# Altium schematic symbol library kmilo17pet-LT_OpAmp_LT1000.SchLib: 2280 symbols (part 56 of 79)
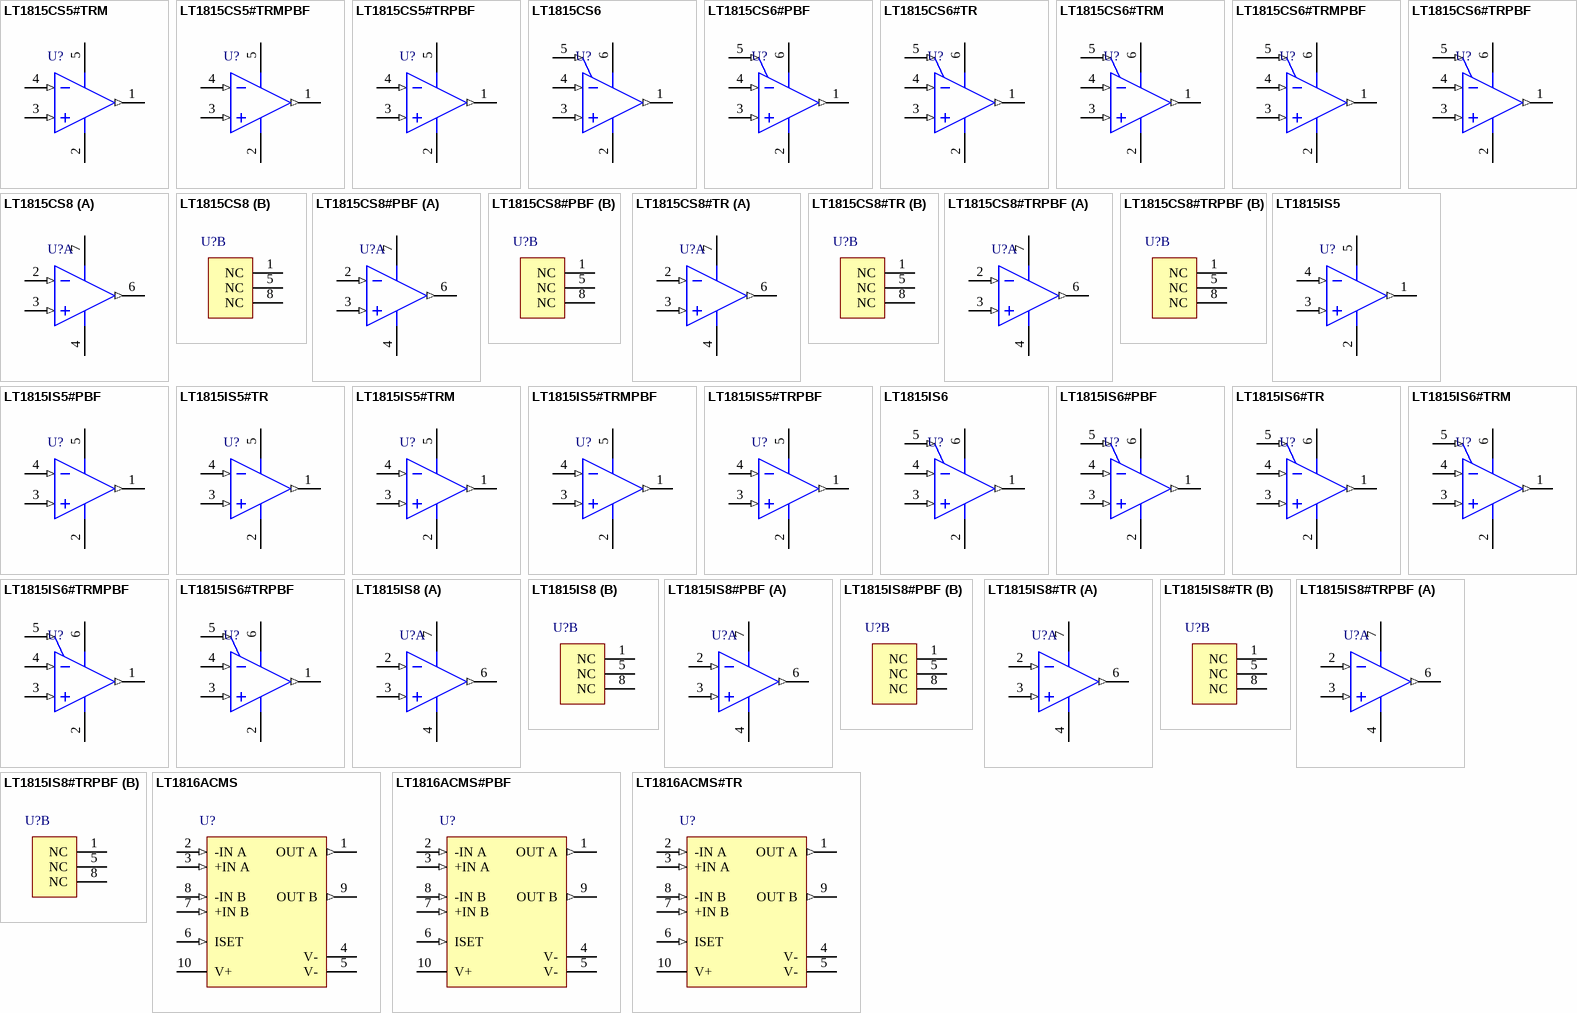
[diagram p160: symbols LT1815CS5#TRM to LT1816ACMS#TR]

## LT1815CS8#TRPBF
designator U?
Single Channel, High SR Voltage Feedback Operational Amplifier with Programmable Supply Current, 220 MHz Typical GBW, 1500 V/us Typical SR, 4 to 12.6 V, 8-Pin SOIC (S8-8), Commercial, Pb-Free, Reel; Linear Technology Part Number: LT1815; Manufacturer: Linear Technology; PartNumber: LT1815CS8#TRPBF; Channels (#): 1; GBW (MHz) Typical: 220; Is (mA) Typical: 6.5; SR (V/us) Typical: 1500; Vos (mV) Guaranteed: 1.5; Vos (mV) Typical: 0.2; Vs Max (V): 12.6; Vs Min (V): 4; DatasheetVersion: Rev. B; PackageVersion: Rev G; PackageReference: LT-S8-8; PackageDescription: 8-Pin Plastic Small Outline, Body 4.9 x 3.9 mm, Pitch 1.27 mm; Supplier 1: Digi-Key; Supplier Part Number 1: LT1815CS8#TRPBF-ND; Packing: Reel; RoHS: Pb-Free; Type: VFB; Mounting Technology: Surface Mount; ComponentLink1Description: Manufacturer URL; ComponentLink1URL: http://www.linear.com/; ComponentLink2Description: Datasheet; ComponentLink2URL: http://cds.linear.com/docs/en/datasheet/181567fb.pdf; ComponentLink3Description: Package Specification; ComponentLink3URL: http://cds.linear.com/docs/en/packaging/05081610_G_SO8.pdf
footprint LT-S8-8_N (SOIC, 8-Leads, Body 4.9x3.9mm, Pitch 1.27mm, IPC Medium Density)
footprint LT-S8-8_L (SOIC, 8-Leads, Body 4.9x3.9mm, Pitch 1.27mm, IPC High Density)
footprint LT-S8-8_M (SOIC, 8-Leads, Body 4.9x3.9mm, Pitch 1.27mm, IPC Low Density)
part A pins: 2 -IN (in), 3 +IN (in), 4 V- (power), 6 OUT (out), 7 V+ (power)
part B pins: 1 NC (power), 5 NC (power), 8 NC (power)

## LT1815IS5
designator U?
Single Channel, High SR Voltage Feedback Operational Amplifier with Programmable Supply Current, 220 MHz Typical GBW, 1500 V/us Typical SR, 4 to 12.6 V, 5-Pin SOT23 (S5-5), Industrial; Linear Technology Part Number: LT1815; Manufacturer: Linear Technology; PartNumber: LT1815IS5; Channels (#): 1; GBW (MHz) Typical: 220; Is (mA) Typical: 6.5; SR (V/us) Typical: 1500; Vos (mV) Guaranteed: 1.5; Vos (mV) Typical: 0.2; Vs Max (V): 12.6; Vs Min (V): 4; DatasheetVersion: Rev. B; PackageReference: LT-S5-5-TSOT-23; PackageDescription: 5-Lead Plastic TSOT-23, Body 1.63 x 2.90 mm, Pitch 0.95 mm; Type: VFB; Mounting Technology: Surface Mount; Code_JEDEC: MO-193; ComponentLink1Description: Manufacturer URL; ComponentLink1URL: http://www.linear.com/; ComponentLink2Description: Datasheet; ComponentLink2URL: http://cds.linear.com/docs/en/datasheet/181567fb.pdf; ComponentLink3Description: Package Specification; ComponentLink3URL: http://cds.linear.com/docs/en/packaging/SOT_5_05-08-1635.pdf
footprint LT-S5-5-TSOT-23_N (SOT23, 5-Leads, Body 2.90x1.63mm, Pitch 0.95mm, IPC Medium Density)
footprint LT-S5-5-TSOT-23_L (SOT23, 5-Leads, Body 2.90x1.63mm, Pitch 0.95mm, IPC High Density)
footprint LT-S5-5-TSOT-23_M (SOT23, 5-Leads, Body 2.90x1.63mm, Pitch 0.95mm, IPC Low Density)
pins: 1 OUT (out) "Output.", 2 V- (power) "Negative Supply Voltage, Usually -5V.", 3 +IN (in) "Noninverting Input.", 4 -IN (in) "Inverting Input.", 5 V+ (power) "Positive Supply Voltage, Usually 5V."

## LT1815IS5#PBF
designator U?
Single Channel, High SR Voltage Feedback Operational Amplifier with Programmable Supply Current, 220 MHz Typical GBW, 1500 V/us Typical SR, 4 to 12.6 V, 5-Pin SOT23 (S5-5), Industrial, Pb-Free; Linear Technology Part Number: LT1815; Manufacturer: Linear Technology; PartNumber: LT1815IS5#PBF; Channels (#): 1; GBW (MHz) Typical: 220; Is (mA) Typical: 6.5; SR (V/us) Typical: 1500; Vos (mV) Guaranteed: 1.5; Vos (mV) Typical: 0.2; Vs Max (V): 12.6; Vs Min (V): 4; DatasheetVersion: Rev. B; PackageReference: LT-S5-5-TSOT-23; PackageDescription: 5-Lead Plastic TSOT-23, Body 1.63 x 2.90 mm, Pitch 0.95 mm; Supplier 1: Newark; Supplier Part Number 1: 78T3752; RoHS: Pb-Free; Type: VFB; Mounting Technology: Surface Mount; Code_JEDEC: MO-193; ComponentLink1Description: Manufacturer URL; ComponentLink1URL: http://www.linear.com/; ComponentLink2Description: Datasheet; ComponentLink2URL: http://cds.linear.com/docs/en/datasheet/181567fb.pdf; ComponentLink3Description: Package Specification; ComponentLink3URL: http://cds.linear.com/docs/en/packaging/SOT_5_05-08-1635.pdf
footprint LT-S5-5-TSOT-23_N (SOT23, 5-Leads, Body 2.90x1.63mm, Pitch 0.95mm, IPC Medium Density)
footprint LT-S5-5-TSOT-23_L (SOT23, 5-Leads, Body 2.90x1.63mm, Pitch 0.95mm, IPC High Density)
footprint LT-S5-5-TSOT-23_M (SOT23, 5-Leads, Body 2.90x1.63mm, Pitch 0.95mm, IPC Low Density)
pins: 1 OUT (out) "Output.", 2 V- (power) "Negative Supply Voltage, Usually -5V.", 3 +IN (in) "Noninverting Input.", 4 -IN (in) "Inverting Input.", 5 V+ (power) "Positive Supply Voltage, Usually 5V."

## LT1815IS5#TR
designator U?
Single Channel, High SR Voltage Feedback Operational Amplifier with Programmable Supply Current, 220 MHz Typical GBW, 1500 V/us Typical SR, 4 to 12.6 V, 5-Pin SOT23 (S5-5), Industrial, Reel; Linear Technology Part Number: LT1815; Manufacturer: Linear Technology; PartNumber: LT1815IS5#TR; Channels (#): 1; GBW (MHz) Typical: 220; Is (mA) Typical: 6.5; SR (V/us) Typical: 1500; Vos (mV) Guaranteed: 1.5; Vos (mV) Typical: 0.2; Vs Max (V): 12.6; Vs Min (V): 4; DatasheetVersion: Rev. B; PackageReference: LT-S5-5-TSOT-23; PackageDescription: 5-Lead Plastic TSOT-23, Body 1.63 x 2.90 mm, Pitch 0.95 mm; Supplier 1: Digi-Key; Supplier Part Number 1: LT1815IS5TR-ND; Packing: Reel; Type: VFB; Mounting Technology: Surface Mount; Code_JEDEC: MO-193; ComponentLink1Description: Manufacturer URL; ComponentLink1URL: http://www.linear.com/; ComponentLink2Description: Datasheet; ComponentLink2URL: http://cds.linear.com/docs/en/datasheet/181567fb.pdf; ComponentLink3Description: Package Specification; ComponentLink3URL: http://cds.linear.com/docs/en/packaging/SOT_5_05-08-1635.pdf
footprint LT-S5-5-TSOT-23_N (SOT23, 5-Leads, Body 2.90x1.63mm, Pitch 0.95mm, IPC Medium Density)
footprint LT-S5-5-TSOT-23_L (SOT23, 5-Leads, Body 2.90x1.63mm, Pitch 0.95mm, IPC High Density)
footprint LT-S5-5-TSOT-23_M (SOT23, 5-Leads, Body 2.90x1.63mm, Pitch 0.95mm, IPC Low Density)
pins: 1 OUT (out) "Output.", 2 V- (power) "Negative Supply Voltage, Usually -5V.", 3 +IN (in) "Noninverting Input.", 4 -IN (in) "Inverting Input.", 5 V+ (power) "Positive Supply Voltage, Usually 5V."

## LT1815IS5#TRM
designator U?
Single Channel, High SR Voltage Feedback Operational Amplifier with Programmable Supply Current, 220 MHz Typical GBW, 1500 V/us Typical SR, 4 to 12.6 V, 5-Pin SOT23 (S5-5), Industrial, Mini Reel; Linear Technology Part Number: LT1815; Manufacturer: Linear Technology; PartNumber: LT1815IS5#TRM; Channels (#): 1; GBW (MHz) Typical: 220; Is (mA) Typical: 6.5; SR (V/us) Typical: 1500; Vos (mV) Guaranteed: 1.5; Vos (mV) Typical: 0.2; Vs Max (V): 12.6; Vs Min (V): 4; DatasheetVersion: Rev. B; PackageReference: LT-S5-5-TSOT-23; PackageDescription: 5-Lead Plastic TSOT-23, Body 1.63 x 2.90 mm, Pitch 0.95 mm; Supplier 1: Digi-Key; Supplier Part Number 1: LT1815IS5#TRMCT-ND; Packing: Mini Reel; Type: VFB; Mounting Technology: Surface Mount; Code_JEDEC: MO-193; ComponentLink1Description: Manufacturer URL; ComponentLink1URL: http://www.linear.com/; ComponentLink2Description: Datasheet; ComponentLink2URL: http://cds.linear.com/docs/en/datasheet/181567fb.pdf; ComponentLink3Description: Package Specification; ComponentLink3URL: http://cds.linear.com/docs/en/packaging/SOT_5_05-08-1635.pdf
footprint LT-S5-5-TSOT-23_N (SOT23, 5-Leads, Body 2.90x1.63mm, Pitch 0.95mm, IPC Medium Density)
footprint LT-S5-5-TSOT-23_L (SOT23, 5-Leads, Body 2.90x1.63mm, Pitch 0.95mm, IPC High Density)
footprint LT-S5-5-TSOT-23_M (SOT23, 5-Leads, Body 2.90x1.63mm, Pitch 0.95mm, IPC Low Density)
pins: 1 OUT (out) "Output.", 2 V- (power) "Negative Supply Voltage, Usually -5V.", 3 +IN (in) "Noninverting Input.", 4 -IN (in) "Inverting Input.", 5 V+ (power) "Positive Supply Voltage, Usually 5V."

## LT1815IS5#TRMPBF
designator U?
Single Channel, High SR Voltage Feedback Operational Amplifier with Programmable Supply Current, 220 MHz Typical GBW, 1500 V/us Typical SR, 4 to 12.6 V, 5-Pin SOT23 (S5-5), Industrial, Pb-Free, Mini Reel; Linear Technology Part Number: LT1815; Manufacturer: Linear Technology; PartNumber: LT1815IS5#TRMPBF; Channels (#): 1; GBW (MHz) Typical: 220; Is (mA) Typical: 6.5; SR (V/us) Typical: 1500; Vos (mV) Guaranteed: 1.5; Vos (mV) Typical: 0.2; Vs Max (V): 12.6; Vs Min (V): 4; DatasheetVersion: Rev. B; PackageReference: LT-S5-5-TSOT-23; PackageDescription: 5-Lead Plastic TSOT-23, Body 1.63 x 2.90 mm, Pitch 0.95 mm; Supplier 1: Digi-Key; Supplier Part Number 1: LT1815IS5#TRMPBF-ND; Packing: Mini Reel; RoHS: Pb-Free; Type: VFB; Mounting Technology: Surface Mount; Code_JEDEC: MO-193; ComponentLink1Description: Manufacturer URL; ComponentLink1URL: http://www.linear.com/; ComponentLink2Description: Datasheet; ComponentLink2URL: http://cds.linear.com/docs/en/datasheet/181567fb.pdf; ComponentLink3Description: Package Specification; ComponentLink3URL: http://cds.linear.com/docs/en/packaging/SOT_5_05-08-1635.pdf
footprint LT-S5-5-TSOT-23_N (SOT23, 5-Leads, Body 2.90x1.63mm, Pitch 0.95mm, IPC Medium Density)
footprint LT-S5-5-TSOT-23_L (SOT23, 5-Leads, Body 2.90x1.63mm, Pitch 0.95mm, IPC High Density)
footprint LT-S5-5-TSOT-23_M (SOT23, 5-Leads, Body 2.90x1.63mm, Pitch 0.95mm, IPC Low Density)
pins: 1 OUT (out) "Output.", 2 V- (power) "Negative Supply Voltage, Usually -5V.", 3 +IN (in) "Noninverting Input.", 4 -IN (in) "Inverting Input.", 5 V+ (power) "Positive Supply Voltage, Usually 5V."

## LT1815IS5#TRPBF
designator U?
Single Channel, High SR Voltage Feedback Operational Amplifier with Programmable Supply Current, 220 MHz Typical GBW, 1500 V/us Typical SR, 4 to 12.6 V, 5-Pin SOT23 (S5-5), Industrial, Pb-Free, Reel; Linear Technology Part Number: LT1815; Manufacturer: Linear Technology; PartNumber: LT1815IS5#TRPBF; Channels (#): 1; GBW (MHz) Typical: 220; Is (mA) Typical: 6.5; SR (V/us) Typical: 1500; Vos (mV) Guaranteed: 1.5; Vos (mV) Typical: 0.2; Vs Max (V): 12.6; Vs Min (V): 4; DatasheetVersion: Rev. B; PackageReference: LT-S5-5-TSOT-23; PackageDescription: 5-Lead Plastic TSOT-23, Body 1.63 x 2.90 mm, Pitch 0.95 mm; Supplier 1: Digi-Key; Supplier Part Number 1: LT1815IS5#TRPBF-ND; Packing: Reel; RoHS: Pb-Free; Type: VFB; Mounting Technology: Surface Mount; Code_JEDEC: MO-193; ComponentLink1Description: Manufacturer URL; ComponentLink1URL: http://www.linear.com/; ComponentLink2Description: Datasheet; ComponentLink2URL: http://cds.linear.com/docs/en/datasheet/181567fb.pdf; ComponentLink3Description: Package Specification; ComponentLink3URL: http://cds.linear.com/docs/en/packaging/SOT_5_05-08-1635.pdf
footprint LT-S5-5-TSOT-23_N (SOT23, 5-Leads, Body 2.90x1.63mm, Pitch 0.95mm, IPC Medium Density)
footprint LT-S5-5-TSOT-23_L (SOT23, 5-Leads, Body 2.90x1.63mm, Pitch 0.95mm, IPC High Density)
footprint LT-S5-5-TSOT-23_M (SOT23, 5-Leads, Body 2.90x1.63mm, Pitch 0.95mm, IPC Low Density)
pins: 1 OUT (out) "Output.", 2 V- (power) "Negative Supply Voltage, Usually -5V.", 3 +IN (in) "Noninverting Input.", 4 -IN (in) "Inverting Input.", 5 V+ (power) "Positive Supply Voltage, Usually 5V."

## LT1815IS6
designator U?
Single Channel, High SR Voltage Feedback Operational Amplifier with Programmable Supply Current, 220 MHz Typical GBW, 1500 V/us Typical SR, 4 to 12.6 V, 6-Pin SOT23 (S6-6), Industrial; Linear Technology Part Number: LT1815; Manufacturer: Linear Technology; PartNumber: LT1815IS6; Channels (#): 1; GBW (MHz) Typical: 220; Is (mA) Typical: 6.5; SR (V/us) Typical: 1500; Vos (mV) Guaranteed: 1.5; Vos (mV) Typical: 0.2; Vs Max (V): 12.6; Vs Min (V): 4; DatasheetVersion: Rev. B; PackageReference: LT-S6-6-TSOT-23; PackageDescription: 6-Pin Plastic TSOT-23, Body 2.9 x 1.63 mm, Pitch 0.95 mm; Type: VFB; Mounting Technology: Surface Mount; Code_JEDEC: MO-193; ComponentLink1Description: Manufacturer URL; ComponentLink1URL: http://www.linear.com/; ComponentLink2Description: Datasheet; ComponentLink2URL: http://cds.linear.com/docs/en/datasheet/181567fb.pdf; ComponentLink3Description: Package Specification; ComponentLink3URL: http://cds.linear.com/docs/en/packaging/SOT_6_05-08-1636.pdf
footprint LT-S6-6-TSOT-23_N (SOT23, 6-Leads, Body 2.90x1.63mm, Pitch 0.95mm, IPC Medium Density)
footprint LT-S6-6-TSOT-23_L (SOT23, 6-Leads, Body 2.90x1.63mm, Pitch 0.95mm, IPC High Density)
footprint LT-S6-6-TSOT-23_M (SOT23, 6-Leads, Body 2.90x1.63mm, Pitch 0.95mm, IPC Low Density)
pins: 1 OUT (out), 2 V- (power), 3 +IN (in), 4 -IN (in), 5 ISET (in), 6 V+ (power)

## LT1815IS6#PBF
designator U?
Single Channel, High SR Voltage Feedback Operational Amplifier with Programmable Supply Current, 220 MHz Typical GBW, 1500 V/us Typical SR, 4 to 12.6 V, 6-Pin SOT23 (S6-6), Industrial, Pb-Free; Linear Technology Part Number: LT1815; Manufacturer: Linear Technology; PartNumber: LT1815IS6#PBF; Channels (#): 1; GBW (MHz) Typical: 220; Is (mA) Typical: 6.5; SR (V/us) Typical: 1500; Vos (mV) Guaranteed: 1.5; Vos (mV) Typical: 0.2; Vs Max (V): 12.6; Vs Min (V): 4; DatasheetVersion: Rev. B; PackageReference: LT-S6-6-TSOT-23; PackageDescription: 6-Pin Plastic TSOT-23, Body 2.9 x 1.63 mm, Pitch 0.95 mm; RoHS: Pb-Free; Type: VFB; Mounting Technology: Surface Mount; Code_JEDEC: MO-193; ComponentLink1Description: Manufacturer URL; ComponentLink1URL: http://www.linear.com/; ComponentLink2Description: Datasheet; ComponentLink2URL: http://cds.linear.com/docs/en/datasheet/181567fb.pdf; ComponentLink3Description: Package Specification; ComponentLink3URL: http://cds.linear.com/docs/en/packaging/SOT_6_05-08-1636.pdf
footprint LT-S6-6-TSOT-23_N (SOT23, 6-Leads, Body 2.90x1.63mm, Pitch 0.95mm, IPC Medium Density)
footprint LT-S6-6-TSOT-23_L (SOT23, 6-Leads, Body 2.90x1.63mm, Pitch 0.95mm, IPC High Density)
footprint LT-S6-6-TSOT-23_M (SOT23, 6-Leads, Body 2.90x1.63mm, Pitch 0.95mm, IPC Low Density)
pins: 1 OUT (out), 2 V- (power), 3 +IN (in), 4 -IN (in), 5 ISET (in), 6 V+ (power)

## LT1815IS6#TR
designator U?
Single Channel, High SR Voltage Feedback Operational Amplifier with Programmable Supply Current, 220 MHz Typical GBW, 1500 V/us Typical SR, 4 to 12.6 V, 6-Pin SOT23 (S6-6), Industrial, Reel; Linear Technology Part Number: LT1815; Manufacturer: Linear Technology; PartNumber: LT1815IS6#TR; Channels (#): 1; GBW (MHz) Typical: 220; Is (mA) Typical: 6.5; SR (V/us) Typical: 1500; Vos (mV) Guaranteed: 1.5; Vos (mV) Typical: 0.2; Vs Max (V): 12.6; Vs Min (V): 4; DatasheetVersion: Rev. B; PackageReference: LT-S6-6-TSOT-23; PackageDescription: 6-Pin Plastic TSOT-23, Body 2.9 x 1.63 mm, Pitch 0.95 mm; Supplier 1: Digi-Key; Supplier Part Number 1: LT1815IS6TR-ND; Packing: Reel; Type: VFB; Mounting Technology: Surface Mount; Code_JEDEC: MO-193; ComponentLink1Description: Manufacturer URL; ComponentLink1URL: http://www.linear.com/; ComponentLink2Description: Datasheet; ComponentLink2URL: http://cds.linear.com/docs/en/datasheet/181567fb.pdf; ComponentLink3Description: Package Specification; ComponentLink3URL: http://cds.linear.com/docs/en/packaging/SOT_6_05-08-1636.pdf
footprint LT-S6-6-TSOT-23_N (SOT23, 6-Leads, Body 2.90x1.63mm, Pitch 0.95mm, IPC Medium Density)
footprint LT-S6-6-TSOT-23_L (SOT23, 6-Leads, Body 2.90x1.63mm, Pitch 0.95mm, IPC High Density)
footprint LT-S6-6-TSOT-23_M (SOT23, 6-Leads, Body 2.90x1.63mm, Pitch 0.95mm, IPC Low Density)
pins: 1 OUT (out), 2 V- (power), 3 +IN (in), 4 -IN (in), 5 ISET (in), 6 V+ (power)

## LT1815IS6#TRM
designator U?
Single Channel, High SR Voltage Feedback Operational Amplifier with Programmable Supply Current, 220 MHz Typical GBW, 1500 V/us Typical SR, 4 to 12.6 V, 6-Pin SOT23 (S6-6), Industrial, Mini Reel; Linear Technology Part Number: LT1815; Manufacturer: Linear Technology; PartNumber: LT1815IS6#TRM; Channels (#): 1; GBW (MHz) Typical: 220; Is (mA) Typical: 6.5; SR (V/us) Typical: 1500; Vos (mV) Guaranteed: 1.5; Vos (mV) Typical: 0.2; Vs Max (V): 12.6; Vs Min (V): 4; DatasheetVersion: Rev. B; PackageReference: LT-S6-6-TSOT-23; PackageDescription: 6-Pin Plastic TSOT-23, Body 2.9 x 1.63 mm, Pitch 0.95 mm; Supplier 1: Digi-Key; Supplier Part Number 1: LT1815IS6#TRMTR-ND; Supplier 2: Digi-Key; Supplier Part Number 2: LT1815IS6#TRMCT-ND; Packing: Mini Reel; Type: VFB; Mounting Technology: Surface Mount; Code_JEDEC: MO-193; ComponentLink1Description: Manufacturer URL; ComponentLink1URL: http://www.linear.com/; ComponentLink2Description: Datasheet; ComponentLink2URL: http://cds.linear.com/docs/en/datasheet/181567fb.pdf; ComponentLink3Description: Package Specification; ComponentLink3URL: http://cds.linear.com/docs/en/packaging/SOT_6_05-08-1636.pdf
footprint LT-S6-6-TSOT-23_N (SOT23, 6-Leads, Body 2.90x1.63mm, Pitch 0.95mm, IPC Medium Density)
footprint LT-S6-6-TSOT-23_L (SOT23, 6-Leads, Body 2.90x1.63mm, Pitch 0.95mm, IPC High Density)
footprint LT-S6-6-TSOT-23_M (SOT23, 6-Leads, Body 2.90x1.63mm, Pitch 0.95mm, IPC Low Density)
pins: 1 OUT (out), 2 V- (power), 3 +IN (in), 4 -IN (in), 5 ISET (in), 6 V+ (power)

## LT1815IS6#TRMPBF
designator U?
Single Channel, High SR Voltage Feedback Operational Amplifier with Programmable Supply Current, 220 MHz Typical GBW, 1500 V/us Typical SR, 4 to 12.6 V, 6-Pin SOT23 (S6-6), Industrial, Pb-Free, Mini Reel; Linear Technology Part Number: LT1815; Manufacturer: Linear Technology; PartNumber: LT1815IS6#TRMPBF; Channels (#): 1; GBW (MHz) Typical: 220; Is (mA) Typical: 6.5; SR (V/us) Typical: 1500; Vos (mV) Guaranteed: 1.5; Vos (mV) Typical: 0.2; Vs Max (V): 12.6; Vs Min (V): 4; DatasheetVersion: Rev. B; PackageReference: LT-S6-6-TSOT-23; PackageDescription: 6-Pin Plastic TSOT-23, Body 2.9 x 1.63 mm, Pitch 0.95 mm; Supplier 1: Digi-Key; Supplier Part Number 1: LT1815IS6#TRMPBF-ND; Packing: Mini Reel; RoHS: Pb-Free; Type: VFB; Mounting Technology: Surface Mount; Code_JEDEC: MO-193; ComponentLink1Description: Manufacturer URL; ComponentLink1URL: http://www.linear.com/; ComponentLink2Description: Datasheet; ComponentLink2URL: http://cds.linear.com/docs/en/datasheet/181567fb.pdf; ComponentLink3Description: Package Specification; ComponentLink3URL: http://cds.linear.com/docs/en/packaging/SOT_6_05-08-1636.pdf
footprint LT-S6-6-TSOT-23_N (SOT23, 6-Leads, Body 2.90x1.63mm, Pitch 0.95mm, IPC Medium Density)
footprint LT-S6-6-TSOT-23_L (SOT23, 6-Leads, Body 2.90x1.63mm, Pitch 0.95mm, IPC High Density)
footprint LT-S6-6-TSOT-23_M (SOT23, 6-Leads, Body 2.90x1.63mm, Pitch 0.95mm, IPC Low Density)
pins: 1 OUT (out), 2 V- (power), 3 +IN (in), 4 -IN (in), 5 ISET (in), 6 V+ (power)

## LT1815IS6#TRPBF
designator U?
Single Channel, High SR Voltage Feedback Operational Amplifier with Programmable Supply Current, 220 MHz Typical GBW, 1500 V/us Typical SR, 4 to 12.6 V, 6-Pin SOT23 (S6-6), Industrial, Pb-Free, Reel; Linear Technology Part Number: LT1815; Manufacturer: Linear Technology; PartNumber: LT1815IS6#TRPBF; Channels (#): 1; GBW (MHz) Typical: 220; Is (mA) Typical: 6.5; SR (V/us) Typical: 1500; Vos (mV) Guaranteed: 1.5; Vos (mV) Typical: 0.2; Vs Max (V): 12.6; Vs Min (V): 4; DatasheetVersion: Rev. B; PackageReference: LT-S6-6-TSOT-23; PackageDescription: 6-Pin Plastic TSOT-23, Body 2.9 x 1.63 mm, Pitch 0.95 mm; Supplier 1: Digi-Key; Supplier Part Number 1: LT1815IS6#TRPBF-ND; Packing: Reel; RoHS: Pb-Free; Type: VFB; Mounting Technology: Surface Mount; Code_JEDEC: MO-193; ComponentLink1Description: Manufacturer URL; ComponentLink1URL: http://www.linear.com/; ComponentLink2Description: Datasheet; ComponentLink2URL: http://cds.linear.com/docs/en/datasheet/181567fb.pdf; ComponentLink3Description: Package Specification; ComponentLink3URL: http://cds.linear.com/docs/en/packaging/SOT_6_05-08-1636.pdf
footprint LT-S6-6-TSOT-23_N (SOT23, 6-Leads, Body 2.90x1.63mm, Pitch 0.95mm, IPC Medium Density)
footprint LT-S6-6-TSOT-23_L (SOT23, 6-Leads, Body 2.90x1.63mm, Pitch 0.95mm, IPC High Density)
footprint LT-S6-6-TSOT-23_M (SOT23, 6-Leads, Body 2.90x1.63mm, Pitch 0.95mm, IPC Low Density)
pins: 1 OUT (out), 2 V- (power), 3 +IN (in), 4 -IN (in), 5 ISET (in), 6 V+ (power)

## LT1815IS8
designator U?
Single Channel, High SR Voltage Feedback Operational Amplifier with Programmable Supply Current, 220 MHz Typical GBW, 1500 V/us Typical SR, 4 to 12.6 V, 8-Pin SOIC (S8-8), Industrial; Linear Technology Part Number: LT1815; Manufacturer: Linear Technology; PartNumber: LT1815IS8; Channels (#): 1; GBW (MHz) Typical: 220; Is (mA) Typical: 6.5; SR (V/us) Typical: 1500; Vos (mV) Guaranteed: 1.5; Vos (mV) Typical: 0.2; Vs Max (V): 12.6; Vs Min (V): 4; DatasheetVersion: Rev. B; PackageVersion: Rev G; PackageReference: LT-S8-8; PackageDescription: 8-Pin Plastic Small Outline, Body 4.9 x 3.9 mm, Pitch 1.27 mm; Supplier 1: Digi-Key; Supplier Part Number 1: LT1815IS8-ND; Supplier 2: Newark; Supplier Part Number 2: 57M6974; Type: VFB; Mounting Technology: Surface Mount; ComponentLink1Description: Manufacturer URL; ComponentLink1URL: http://www.linear.com/; ComponentLink2Description: Datasheet; ComponentLink2URL: http://cds.linear.com/docs/en/datasheet/181567fb.pdf; ComponentLink3Description: Package Specification; ComponentLink3URL: http://cds.linear.com/docs/en/packaging/05081610_G_SO8.pdf
footprint LT-S8-8_N (SOIC, 8-Leads, Body 4.9x3.9mm, Pitch 1.27mm, IPC Medium Density)
footprint LT-S8-8_L (SOIC, 8-Leads, Body 4.9x3.9mm, Pitch 1.27mm, IPC High Density)
footprint LT-S8-8_M (SOIC, 8-Leads, Body 4.9x3.9mm, Pitch 1.27mm, IPC Low Density)
part A pins: 2 -IN (in), 3 +IN (in), 4 V- (power), 6 OUT (out), 7 V+ (power)
part B pins: 1 NC (power), 5 NC (power), 8 NC (power)

## LT1815IS8#PBF
designator U?
Single Channel, High SR Voltage Feedback Operational Amplifier with Programmable Supply Current, 220 MHz Typical GBW, 1500 V/us Typical SR, 4 to 12.6 V, 8-Pin SOIC (S8-8), Industrial, Pb-Free; Linear Technology Part Number: LT1815; Manufacturer: Linear Technology; PartNumber: LT1815IS8#PBF; Channels (#): 1; GBW (MHz) Typical: 220; Is (mA) Typical: 6.5; SR (V/us) Typical: 1500; Vos (mV) Guaranteed: 1.5; Vos (mV) Typical: 0.2; Vs Max (V): 12.6; Vs Min (V): 4; DatasheetVersion: Rev. B; PackageVersion: Rev G; PackageReference: LT-S8-8; PackageDescription: 8-Pin Plastic Small Outline, Body 4.9 x 3.9 mm, Pitch 1.27 mm; Supplier 1: Digi-Key; Supplier Part Number 1: LT1815IS8#PBF-ND; RoHS: Pb-Free; Type: VFB; Mounting Technology: Surface Mount; ComponentLink1Description: Manufacturer URL; ComponentLink1URL: http://www.linear.com/; ComponentLink2Description: Datasheet; ComponentLink2URL: http://cds.linear.com/docs/en/datasheet/181567fb.pdf; ComponentLink3Description: Package Specification; ComponentLink3URL: http://cds.linear.com/docs/en/packaging/05081610_G_SO8.pdf
footprint LT-S8-8_N (SOIC, 8-Leads, Body 4.9x3.9mm, Pitch 1.27mm, IPC Medium Density)
footprint LT-S8-8_L (SOIC, 8-Leads, Body 4.9x3.9mm, Pitch 1.27mm, IPC High Density)
footprint LT-S8-8_M (SOIC, 8-Leads, Body 4.9x3.9mm, Pitch 1.27mm, IPC Low Density)
part A pins: 2 -IN (in), 3 +IN (in), 4 V- (power), 6 OUT (out), 7 V+ (power)
part B pins: 1 NC (power), 5 NC (power), 8 NC (power)

## LT1815IS8#TR
designator U?
Single Channel, High SR Voltage Feedback Operational Amplifier with Programmable Supply Current, 220 MHz Typical GBW, 1500 V/us Typical SR, 4 to 12.6 V, 8-Pin SOIC (S8-8), Industrial, Reel; Linear Technology Part Number: LT1815; Manufacturer: Linear Technology; PartNumber: LT1815IS8#TR; Channels (#): 1; GBW (MHz) Typical: 220; Is (mA) Typical: 6.5; SR (V/us) Typical: 1500; Vos (mV) Guaranteed: 1.5; Vos (mV) Typical: 0.2; Vs Max (V): 12.6; Vs Min (V): 4; DatasheetVersion: Rev. B; PackageVersion: Rev G; PackageReference: LT-S8-8; PackageDescription: 8-Pin Plastic Small Outline, Body 4.9 x 3.9 mm, Pitch 1.27 mm; Supplier 1: Digi-Key; Supplier Part Number 1: LT1815IS8TR-ND; Packing: Reel; Type: VFB; Mounting Technology: Surface Mount; ComponentLink1Description: Manufacturer URL; ComponentLink1URL: http://www.linear.com/; ComponentLink2Description: Datasheet; ComponentLink2URL: http://cds.linear.com/docs/en/datasheet/181567fb.pdf; ComponentLink3Description: Package Specification; ComponentLink3URL: http://cds.linear.com/docs/en/packaging/05081610_G_SO8.pdf
footprint LT-S8-8_N (SOIC, 8-Leads, Body 4.9x3.9mm, Pitch 1.27mm, IPC Medium Density)
footprint LT-S8-8_L (SOIC, 8-Leads, Body 4.9x3.9mm, Pitch 1.27mm, IPC High Density)
footprint LT-S8-8_M (SOIC, 8-Leads, Body 4.9x3.9mm, Pitch 1.27mm, IPC Low Density)
part A pins: 2 -IN (in), 3 +IN (in), 4 V- (power), 6 OUT (out), 7 V+ (power)
part B pins: 1 NC (power), 5 NC (power), 8 NC (power)

## LT1815IS8#TRPBF
designator U?
Single Channel, High SR Voltage Feedback Operational Amplifier with Programmable Supply Current, 220 MHz Typical GBW, 1500 V/us Typical SR, 4 to 12.6 V, 8-Pin SOIC (S8-8), Industrial, Pb-Free, Reel; Linear Technology Part Number: LT1815; Manufacturer: Linear Technology; PartNumber: LT1815IS8#TRPBF; Channels (#): 1; GBW (MHz) Typical: 220; Is (mA) Typical: 6.5; SR (V/us) Typical: 1500; Vos (mV) Guaranteed: 1.5; Vos (mV) Typical: 0.2; Vs Max (V): 12.6; Vs Min (V): 4; DatasheetVersion: Rev. B; PackageVersion: Rev G; PackageReference: LT-S8-8; PackageDescription: 8-Pin Plastic Small Outline, Body 4.9 x 3.9 mm, Pitch 1.27 mm; Supplier 1: Digi-Key; Supplier Part Number 1: LT1815IS8#TRPBF-ND; Packing: Reel; RoHS: Pb-Free; Type: VFB; Mounting Technology: Surface Mount; ComponentLink1Description: Manufacturer URL; ComponentLink1URL: http://www.linear.com/; ComponentLink2Description: Datasheet; ComponentLink2URL: http://cds.linear.com/docs/en/datasheet/181567fb.pdf; ComponentLink3Description: Package Specification; ComponentLink3URL: http://cds.linear.com/docs/en/packaging/05081610_G_SO8.pdf
footprint LT-S8-8_N (SOIC, 8-Leads, Body 4.9x3.9mm, Pitch 1.27mm, IPC Medium Density)
footprint LT-S8-8_L (SOIC, 8-Leads, Body 4.9x3.9mm, Pitch 1.27mm, IPC High Density)
footprint LT-S8-8_M (SOIC, 8-Leads, Body 4.9x3.9mm, Pitch 1.27mm, IPC Low Density)
part A pins: 2 -IN (in), 3 +IN (in), 4 V- (power), 6 OUT (out), 7 V+ (power)
part B pins: 1 NC (power), 5 NC (power), 8 NC (power)

## LT1816ACMS
designator U?
Dual Channel, High SR Volage Feedback Operational Amplifier with Programmable Supply Current, 220 MHz Typical GBW, 1500 V/us Typical SR, 2.5 to 12.6 V, 10-Pin SOP (MS-10), Commercial; Linear Technology Part Number: LT1816; Manufacturer: Linear Technology; PartNumber: LT1816ACMS; Channels (#): 2; GBW (MHz) Typical: 220; Is (mA) Typical: 6.5; SR (V/us) Typical: 1500; Vos (mV) Guaranteed: 1.5; Vos (mV) Typical: 0.2; Vs Max (V): 12.6; Vs Min (V): 2.5; DatasheetVersion: Rev. B; PackageVersion: Rev E; PackageReference: LT-MS-10; PackageDescription: 10-Lead Plastic MSOP, Body 3 x 3 mm, Pitch 0.5 mm; Type: VFB; Mounting Technology: Surface Mount; ComponentLink1Description: Manufacturer URL; ComponentLink1URL: http://www.linear.com/; ComponentLink2Description: Datasheet; ComponentLink2URL: http://cds.linear.com/docs/en/datasheet/181567fb.pdf; ComponentLink3Description: Package Specification; ComponentLink3URL: http://cds.linear.com/docs/en/packaging/MSOP_10_05-08-1661.pdf
footprint LT-MS-10_N (SOP, 10-Leads, Body 3x3mm, Pitch 0.50mm, IPC Medium Density)
footprint LT-MS-10_L (SOP, 10-Leads, Body 3x3mm, Pitch 0.50mm, IPC High Density)
footprint LT-MS-10_M (SOP, 10-Leads, Body 3x3mm, Pitch 0.50mm, IPC Low Density)
pins: 1 OUT A (out), 2 -IN A (in), 3 +IN A (in), 4 V- (power), 5 V- (power), 6 ISET (in), 7 +IN B (in), 8 -IN B (in), 9 OUT B (out), 10 V+ (power)

## LT1816ACMS#PBF
designator U?
Dual Channel, High SR Volage Feedback Operational Amplifier with Programmable Supply Current, 220 MHz Typical GBW, 1500 V/us Typical SR, 2.5 to 12.6 V, 10-Pin SOP (MS-10), Commercial, Pb-Free; Linear Technology Part Number: LT1816; Manufacturer: Linear Technology; PartNumber: LT1816ACMS#PBF; Channels (#): 2; GBW (MHz) Typical: 220; Is (mA) Typical: 6.5; SR (V/us) Typical: 1500; Vos (mV) Guaranteed: 1.5; Vos (mV) Typical: 0.2; Vs Max (V): 12.6; Vs Min (V): 2.5; DatasheetVersion: Rev. B; PackageVersion: Rev E; PackageReference: LT-MS-10; PackageDescription: 10-Lead Plastic MSOP, Body 3 x 3 mm, Pitch 0.5 mm; Supplier 1: Digi-Key; Supplier Part Number 1: LT1816ACMS#PBF-ND; RoHS: Pb-Free; Type: VFB; Mounting Technology: Surface Mount; ComponentLink1Description: Manufacturer URL; ComponentLink1URL: http://www.linear.com/; ComponentLink2Description: Datasheet; ComponentLink2URL: http://cds.linear.com/docs/en/datasheet/181567fb.pdf; ComponentLink3Description: Package Specification; ComponentLink3URL: http://cds.linear.com/docs/en/packaging/MSOP_10_05-08-1661.pdf
footprint LT-MS-10_N (SOP, 10-Leads, Body 3x3mm, Pitch 0.50mm, IPC Medium Density)
footprint LT-MS-10_L (SOP, 10-Leads, Body 3x3mm, Pitch 0.50mm, IPC High Density)
footprint LT-MS-10_M (SOP, 10-Leads, Body 3x3mm, Pitch 0.50mm, IPC Low Density)
pins: 1 OUT A (out), 2 -IN A (in), 3 +IN A (in), 4 V- (power), 5 V- (power), 6 ISET (in), 7 +IN B (in), 8 -IN B (in), 9 OUT B (out), 10 V+ (power)

## LT1816ACMS#TR
designator U?
Dual Channel, High SR Volage Feedback Operational Amplifier with Programmable Supply Current, 220 MHz Typical GBW, 1500 V/us Typical SR, 2.5 to 12.6 V, 10-Pin SOP (MS-10), Commercial, Reel; Linear Technology Part Number: LT1816; Manufacturer: Linear Technology; PartNumber: LT1816ACMS#TR; Channels (#): 2; GBW (MHz) Typical: 220; Is (mA) Typical: 6.5; SR (V/us) Typical: 1500; Vos (mV) Guaranteed: 1.5; Vos (mV) Typical: 0.2; Vs Max (V): 12.6; Vs Min (V): 2.5; DatasheetVersion: Rev. B; PackageVersion: Rev E; PackageReference: LT-MS-10; PackageDescription: 10-Lead Plastic MSOP, Body 3 x 3 mm, Pitch 0.5 mm; Supplier 1: Digi-Key; Supplier Part Number 1: LT1816ACMSTR-ND; Packing: Reel; Type: VFB; Mounting Technology: Surface Mount; ComponentLink1Description: Manufacturer URL; ComponentLink1URL: http://www.linear.com/; ComponentLink2Description: Datasheet; ComponentLink2URL: http://cds.linear.com/docs/en/datasheet/181567fb.pdf; ComponentLink3Description: Package Specification; ComponentLink3URL: http://cds.linear.com/docs/en/packaging/MSOP_10_05-08-1661.pdf
footprint LT-MS-10_N (SOP, 10-Leads, Body 3x3mm, Pitch 0.50mm, IPC Medium Density)
footprint LT-MS-10_L (SOP, 10-Leads, Body 3x3mm, Pitch 0.50mm, IPC High Density)
footprint LT-MS-10_M (SOP, 10-Leads, Body 3x3mm, Pitch 0.50mm, IPC Low Density)
pins: 1 OUT A (out), 2 -IN A (in), 3 +IN A (in), 4 V- (power), 5 V- (power), 6 ISET (in), 7 +IN B (in), 8 -IN B (in), 9 OUT B (out), 10 V+ (power)

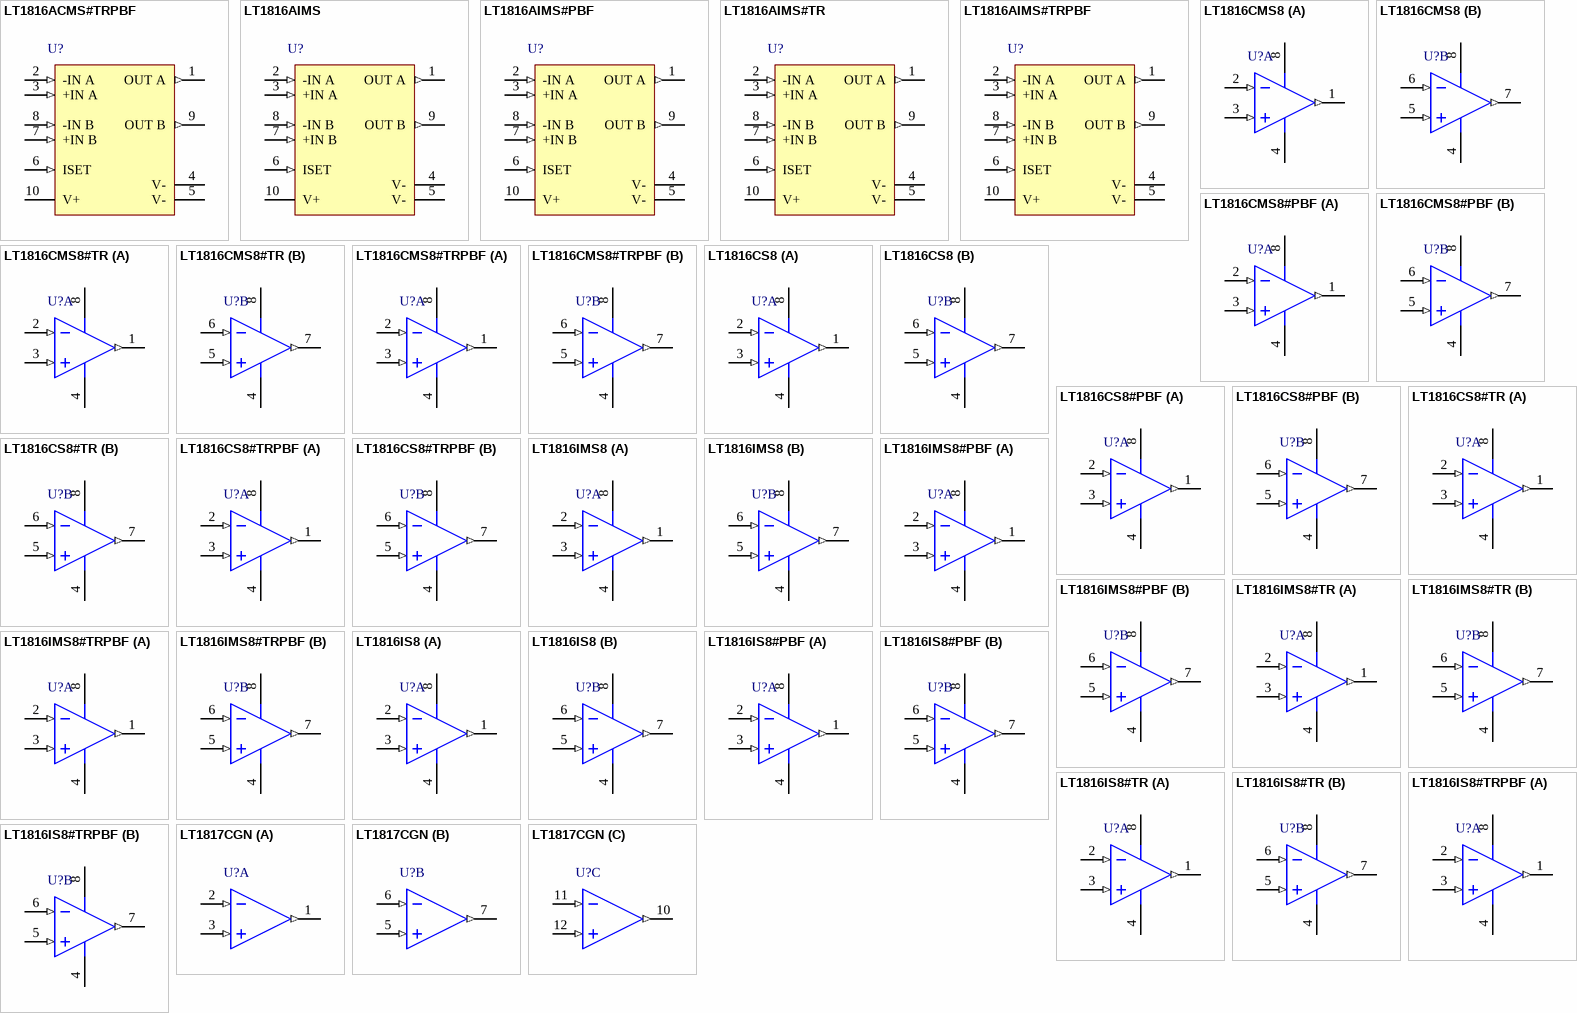
[diagram p87: symbols LT1816ACMS#TRPBF to LT1817CGN]

## LT1816ACMS#TRPBF
designator U?
Dual Channel, High SR Volage Feedback Operational Amplifier with Programmable Supply Current, 220 MHz Typical GBW, 1500 V/us Typical SR, 2.5 to 12.6 V, 10-Pin SOP (MS-10), Commercial, Pb-Free, Reel; Linear Technology Part Number: LT1816; Manufacturer: Linear Technology; PartNumber: LT1816ACMS#TRPBF; Channels (#): 2; GBW (MHz) Typical: 220; Is (mA) Typical: 6.5; SR (V/us) Typical: 1500; Vos (mV) Guaranteed: 1.5; Vos (mV) Typical: 0.2; Vs Max (V): 12.6; Vs Min (V): 2.5; DatasheetVersion: Rev. B; PackageVersion: Rev E; PackageReference: LT-MS-10; PackageDescription: 10-Lead Plastic MSOP, Body 3 x 3 mm, Pitch 0.5 mm; Supplier 1: Digi-Key; Supplier Part Number 1: LT1816ACMS#TRPBF-ND; Packing: Reel; RoHS: Pb-Free; Type: VFB; Mounting Technology: Surface Mount; ComponentLink1Description: Manufacturer URL; ComponentLink1URL: http://www.linear.com/; ComponentLink2Description: Datasheet; ComponentLink2URL: http://cds.linear.com/docs/en/datasheet/181567fb.pdf; ComponentLink3Description: Package Specification; ComponentLink3URL: http://cds.linear.com/docs/en/packaging/MSOP_10_05-08-1661.pdf
footprint LT-MS-10_N (SOP, 10-Leads, Body 3x3mm, Pitch 0.50mm, IPC Medium Density)
footprint LT-MS-10_L (SOP, 10-Leads, Body 3x3mm, Pitch 0.50mm, IPC High Density)
footprint LT-MS-10_M (SOP, 10-Leads, Body 3x3mm, Pitch 0.50mm, IPC Low Density)
pins: 1 OUT A (out), 2 -IN A (in), 3 +IN A (in), 4 V- (power), 5 V- (power), 6 ISET (in), 7 +IN B (in), 8 -IN B (in), 9 OUT B (out), 10 V+ (power)

## LT1816AIMS
designator U?
Dual Channel, High SR Volage Feedback Operational Amplifier with Programmable Supply Current, 220 MHz Typical GBW, 1500 V/us Typical SR, 2.5 to 12.6 V, 10-Pin SOP (MS-10), Industrial; Linear Technology Part Number: LT1816; Manufacturer: Linear Technology; PartNumber: LT1816AIMS; Channels (#): 2; GBW (MHz) Typical: 220; Is (mA) Typical: 6.5; SR (V/us) Typical: 1500; Vos (mV) Guaranteed: 1.5; Vos (mV) Typical: 0.2; Vs Max (V): 12.6; Vs Min (V): 2.5; DatasheetVersion: Rev. B; PackageVersion: Rev E; PackageReference: LT-MS-10; PackageDescription: 10-Lead Plastic MSOP, Body 3 x 3 mm, Pitch 0.5 mm; Supplier 1: Digi-Key; Supplier Part Number 1: LT1816AIMS-ND; Type: VFB; Mounting Technology: Surface Mount; ComponentLink1Description: Manufacturer URL; ComponentLink1URL: http://www.linear.com/; ComponentLink2Description: Datasheet; ComponentLink2URL: http://cds.linear.com/docs/en/datasheet/181567fb.pdf; ComponentLink3Description: Package Specification; ComponentLink3URL: http://cds.linear.com/docs/en/packaging/MSOP_10_05-08-1661.pdf
footprint LT-MS-10_N (SOP, 10-Leads, Body 3x3mm, Pitch 0.50mm, IPC Medium Density)
footprint LT-MS-10_L (SOP, 10-Leads, Body 3x3mm, Pitch 0.50mm, IPC High Density)
footprint LT-MS-10_M (SOP, 10-Leads, Body 3x3mm, Pitch 0.50mm, IPC Low Density)
pins: 1 OUT A (out), 2 -IN A (in), 3 +IN A (in), 4 V- (power), 5 V- (power), 6 ISET (in), 7 +IN B (in), 8 -IN B (in), 9 OUT B (out), 10 V+ (power)

## LT1816AIMS#PBF
designator U?
Dual Channel, High SR Volage Feedback Operational Amplifier with Programmable Supply Current, 220 MHz Typical GBW, 1500 V/us Typical SR, 2.5 to 12.6 V, 10-Pin SOP (MS-10), Industrial, Pb-Free; Linear Technology Part Number: LT1816; Manufacturer: Linear Technology; PartNumber: LT1816AIMS#PBF; Channels (#): 2; GBW (MHz) Typical: 220; Is (mA) Typical: 6.5; SR (V/us) Typical: 1500; Vos (mV) Guaranteed: 1.5; Vos (mV) Typical: 0.2; Vs Max (V): 12.6; Vs Min (V): 2.5; DatasheetVersion: Rev. B; PackageVersion: Rev E; PackageReference: LT-MS-10; PackageDescription: 10-Lead Plastic MSOP, Body 3 x 3 mm, Pitch 0.5 mm; Supplier 1: Digi-Key; Supplier Part Number 1: LT1816AIMS#PBF-ND; RoHS: Pb-Free; Type: VFB; Mounting Technology: Surface Mount; ComponentLink1Description: Manufacturer URL; ComponentLink1URL: http://www.linear.com/; ComponentLink2Description: Datasheet; ComponentLink2URL: http://cds.linear.com/docs/en/datasheet/181567fb.pdf; ComponentLink3Description: Package Specification; ComponentLink3URL: http://cds.linear.com/docs/en/packaging/MSOP_10_05-08-1661.pdf
footprint LT-MS-10_N (SOP, 10-Leads, Body 3x3mm, Pitch 0.50mm, IPC Medium Density)
footprint LT-MS-10_L (SOP, 10-Leads, Body 3x3mm, Pitch 0.50mm, IPC High Density)
footprint LT-MS-10_M (SOP, 10-Leads, Body 3x3mm, Pitch 0.50mm, IPC Low Density)
pins: 1 OUT A (out), 2 -IN A (in), 3 +IN A (in), 4 V- (power), 5 V- (power), 6 ISET (in), 7 +IN B (in), 8 -IN B (in), 9 OUT B (out), 10 V+ (power)

## LT1816AIMS#TR
designator U?
Dual Channel, High SR Volage Feedback Operational Amplifier with Programmable Supply Current, 220 MHz Typical GBW, 1500 V/us Typical SR, 2.5 to 12.6 V, 10-Pin SOP (MS-10), Industrial, Reel; Linear Technology Part Number: LT1816; Manufacturer: Linear Technology; PartNumber: LT1816AIMS#TR; Channels (#): 2; GBW (MHz) Typical: 220; Is (mA) Typical: 6.5; SR (V/us) Typical: 1500; Vos (mV) Guaranteed: 1.5; Vos (mV) Typical: 0.2; Vs Max (V): 12.6; Vs Min (V): 2.5; DatasheetVersion: Rev. B; PackageVersion: Rev E; PackageReference: LT-MS-10; PackageDescription: 10-Lead Plastic MSOP, Body 3 x 3 mm, Pitch 0.5 mm; Supplier 1: Digi-Key; Supplier Part Number 1: LT1816AIMSTR-ND; Packing: Reel; Type: VFB; Mounting Technology: Surface Mount; ComponentLink1Description: Manufacturer URL; ComponentLink1URL: http://www.linear.com/; ComponentLink2Description: Datasheet; ComponentLink2URL: http://cds.linear.com/docs/en/datasheet/181567fb.pdf; ComponentLink3Description: Package Specification; ComponentLink3URL: http://cds.linear.com/docs/en/packaging/MSOP_10_05-08-1661.pdf
footprint LT-MS-10_N (SOP, 10-Leads, Body 3x3mm, Pitch 0.50mm, IPC Medium Density)
footprint LT-MS-10_L (SOP, 10-Leads, Body 3x3mm, Pitch 0.50mm, IPC High Density)
footprint LT-MS-10_M (SOP, 10-Leads, Body 3x3mm, Pitch 0.50mm, IPC Low Density)
pins: 1 OUT A (out), 2 -IN A (in), 3 +IN A (in), 4 V- (power), 5 V- (power), 6 ISET (in), 7 +IN B (in), 8 -IN B (in), 9 OUT B (out), 10 V+ (power)

## LT1816AIMS#TRPBF
designator U?
Dual Channel, High SR Volage Feedback Operational Amplifier with Programmable Supply Current, 220 MHz Typical GBW, 1500 V/us Typical SR, 2.5 to 12.6 V, 10-Pin SOP (MS-10), Industrial, Pb-Free, Reel; Linear Technology Part Number: LT1816; Manufacturer: Linear Technology; PartNumber: LT1816AIMS#TRPBF; Channels (#): 2; GBW (MHz) Typical: 220; Is (mA) Typical: 6.5; SR (V/us) Typical: 1500; Vos (mV) Guaranteed: 1.5; Vos (mV) Typical: 0.2; Vs Max (V): 12.6; Vs Min (V): 2.5; DatasheetVersion: Rev. B; PackageVersion: Rev E; PackageReference: LT-MS-10; PackageDescription: 10-Lead Plastic MSOP, Body 3 x 3 mm, Pitch 0.5 mm; Supplier 1: Digi-Key; Supplier Part Number 1: LT1816AIMS#TRPBF-ND; Packing: Reel; RoHS: Pb-Free; Type: VFB; Mounting Technology: Surface Mount; ComponentLink1Description: Manufacturer URL; ComponentLink1URL: http://www.linear.com/; ComponentLink2Description: Datasheet; ComponentLink2URL: http://cds.linear.com/docs/en/datasheet/181567fb.pdf; ComponentLink3Description: Package Specification; ComponentLink3URL: http://cds.linear.com/docs/en/packaging/MSOP_10_05-08-1661.pdf
footprint LT-MS-10_N (SOP, 10-Leads, Body 3x3mm, Pitch 0.50mm, IPC Medium Density)
footprint LT-MS-10_L (SOP, 10-Leads, Body 3x3mm, Pitch 0.50mm, IPC High Density)
footprint LT-MS-10_M (SOP, 10-Leads, Body 3x3mm, Pitch 0.50mm, IPC Low Density)
pins: 1 OUT A (out), 2 -IN A (in), 3 +IN A (in), 4 V- (power), 5 V- (power), 6 ISET (in), 7 +IN B (in), 8 -IN B (in), 9 OUT B (out), 10 V+ (power)

## LT1816CMS8
designator U?
Dual Channel, High SR Volage Feedback Operational Amplifier with Programmable Supply Current, 220 MHz Typical GBW, 1500 V/us Typical SR, 2.5 to 12.6 V, 8-Pin SOP (MS8-8), Commercial; Linear Technology Part Number: LT1816; Manufacturer: Linear Technology; PartNumber: LT1816CMS8; Channels (#): 2; GBW (MHz) Typical: 220; Is (mA) Typical: 6.5; SR (V/us) Typical: 1500; Vos (mV) Guaranteed: 1.5; Vos (mV) Typical: 0.2; Vs Max (V): 12.6; Vs Min (V): 2.5; DatasheetVersion: Rev. B; PackageVersion: Rev G; PackageReference: LT-MS8-8; PackageDescription: 8-Lead Plastic Small Outline, Body 3.9 x 4.9 mm, Pitch 1.27 mm; Supplier 1: Digi-Key; Supplier Part Number 1: LT1816CMS8-ND; Type: VFB; Mounting Technology: Surface Mount; ComponentLink1Description: Manufacturer URL; ComponentLink1URL: http://www.linear.com/; ComponentLink2Description: Datasheet; ComponentLink2URL: http://cds.linear.com/docs/en/datasheet/181567fb.pdf; ComponentLink3Description: Package Specification; ComponentLink3URL: http://cds.linear.com/docs/en/packaging/05081610_G_SO8.pdf
footprint LT-MS8-8_N (SOP, 8-Leads, Body 3x3mm, Pitch 0.65mm, IPC Medium Density)
footprint LT-MS8-8_L (SOP, 8-Leads, Body 3x3mm, Pitch 0.65mm, IPC High Density)
footprint LT-MS8-8_M (SOP, 8-Leads, Body 3x3mm, Pitch 0.65mm, IPC Low Density)
pins on every part: 4 V- (power), 8 V+ (power)
part A pins: 1 OUTA (out), 2 -INA (in), 3 +INA (in)
part B pins: 5 +INB (in), 6 -INB (in), 7 OUTB (out)

## LT1816CMS8#PBF
designator U?
Dual Channel, High SR Volage Feedback Operational Amplifiers with Programmable Supply Current, 220 MHz Typical GBW, 1500 V/us Typical SR, 2.5 to 12.6 V, 8-Pin SOP (MS8-8), Commercial, Pb-Free; Linear Technology Part Number: LT1816; Manufacturer: Linear Technology; PartNumber: LT1816CMS8#PBF; Channels (#): 2; GBW (MHz) Typical: 220; Is (mA) Typical: 6.5; SR (V/us) Typical: 1500; Vos (mV) Guaranteed: 1.5; Vos (mV) Typical: 0.2; Vs Max (V): 12.6; Vs Min (V): 2.5; DatasheetVersion: Rev. B; PackageVersion: Rev G; PackageReference: LT-MS8-8; PackageDescription: 8-Lead Plastic Small Outline, Body 3.9 x 4.9 mm, Pitch 1.27 mm; Supplier 1: Digi-Key; Supplier Part Number 1: LT1816CMS8#PBF-ND; Supplier 2: Newark; Supplier Part Number 2: 57M6991; RoHS: Pb-Free; Type: VFB; Mounting Technology: Surface Mount; ComponentLink1Description: Manufacturer URL; ComponentLink1URL: http://www.linear.com/; ComponentLink2Description: Datasheet; ComponentLink2URL: http://cds.linear.com/docs/en/datasheet/181567fb.pdf; ComponentLink3Description: Package Specification; ComponentLink3URL: http://cds.linear.com/docs/en/packaging/05081610_G_SO8.pdf
footprint LT-MS8-8_N (SOP, 8-Leads, Body 3x3mm, Pitch 0.65mm, IPC Medium Density)
footprint LT-MS8-8_L (SOP, 8-Leads, Body 3x3mm, Pitch 0.65mm, IPC High Density)
footprint LT-MS8-8_M (SOP, 8-Leads, Body 3x3mm, Pitch 0.65mm, IPC Low Density)
pins on every part: 4 V- (power), 8 V+ (power)
part A pins: 1 OUTA (out), 2 -INA (in), 3 +INA (in)
part B pins: 5 +INB (in), 6 -INB (in), 7 OUTB (out)

## LT1816CMS8#TR
designator U?
Dual Channel, High SR Volage Feedback Operational Amplifier with Programmable Supply Current, 220 MHz Typical GBW, 1500 V/us Typical SR, 2.5 to 12.6 V, 8-Pin SOP (MS8-8), Commercial, Reel; Linear Technology Part Number: LT1816; Manufacturer: Linear Technology; PartNumber: LT1816CMS8#TR; Channels (#): 2; GBW (MHz) Typical: 220; Is (mA) Typical: 6.5; SR (V/us) Typical: 1500; Vos (mV) Guaranteed: 1.5; Vos (mV) Typical: 0.2; Vs Max (V): 12.6; Vs Min (V): 2.5; DatasheetVersion: Rev. B; PackageVersion: Rev G; PackageReference: LT-MS8-8; PackageDescription: 8-Lead Plastic Small Outline, Body 3.9 x 4.9 mm, Pitch 1.27 mm; Supplier 1: Digi-Key; Supplier Part Number 1: LT1816CMS8TR-ND; Packing: Reel; Type: VFB; Mounting Technology: Surface Mount; ComponentLink1Description: Manufacturer URL; ComponentLink1URL: http://www.linear.com/; ComponentLink2Description: Datasheet; ComponentLink2URL: http://cds.linear.com/docs/en/datasheet/181567fb.pdf; ComponentLink3Description: Package Specification; ComponentLink3URL: http://cds.linear.com/docs/en/packaging/05081610_G_SO8.pdf
footprint LT-MS8-8_N (SOP, 8-Leads, Body 3x3mm, Pitch 0.65mm, IPC Medium Density)
footprint LT-MS8-8_L (SOP, 8-Leads, Body 3x3mm, Pitch 0.65mm, IPC High Density)
footprint LT-MS8-8_M (SOP, 8-Leads, Body 3x3mm, Pitch 0.65mm, IPC Low Density)
pins on every part: 4 V- (power), 8 V+ (power)
part A pins: 1 OUTA (out), 2 -INA (in), 3 +INA (in)
part B pins: 5 +INB (in), 6 -INB (in), 7 OUTB (out)

## LT1816CMS8#TRPBF
designator U?
Dual Channel, High SR Volage Feedback Operational Amplifiers with Programmable Supply Current, 220 MHz Typical GBW, 1500 V/us Typical SR, 2.5 to 12.6 V, 8-Pin SOP (MS8-8), Commercial, Pb-Free, Reel; Linear Technology Part Number: LT1816; Manufacturer: Linear Technology; PartNumber: LT1816CMS8#TRPBF; Channels (#): 2; GBW (MHz) Typical: 220; Is (mA) Typical: 6.5; SR (V/us) Typical: 1500; Vos (mV) Guaranteed: 1.5; Vos (mV) Typical: 0.2; Vs Max (V): 12.6; Vs Min (V): 2.5; DatasheetVersion: Rev. B; PackageVersion: Rev G; PackageReference: LT-MS8-8; PackageDescription: 8-Lead Plastic Small Outline, Body 3.9 x 4.9 mm, Pitch 1.27 mm; Supplier 1: Digi-Key; Supplier Part Number 1: LT1816CMS8#TRPBF-ND; Packing: Reel; RoHS: Pb-Free; Type: VFB; Mounting Technology: Surface Mount; ComponentLink1Description: Manufacturer URL; ComponentLink1URL: http://www.linear.com/; ComponentLink2Description: Datasheet; ComponentLink2URL: http://cds.linear.com/docs/en/datasheet/181567fb.pdf; ComponentLink3Description: Package Specification; ComponentLink3URL: http://cds.linear.com/docs/en/packaging/05081610_G_SO8.pdf
footprint LT-MS8-8_N (SOP, 8-Leads, Body 3x3mm, Pitch 0.65mm, IPC Medium Density)
footprint LT-MS8-8_L (SOP, 8-Leads, Body 3x3mm, Pitch 0.65mm, IPC High Density)
footprint LT-MS8-8_M (SOP, 8-Leads, Body 3x3mm, Pitch 0.65mm, IPC Low Density)
pins on every part: 4 V- (power), 8 V+ (power)
part A pins: 1 OUTA (out), 2 -INA (in), 3 +INA (in)
part B pins: 5 +INB (in), 6 -INB (in), 7 OUTB (out)

## LT1816CS8
designator U?
Dual Channel, High SR Volage Feedback Operational Amplifier with Programmable Supply Current, 220 MHz Typical GBW, 1500 V/us Typical SR, 2.5 to 12.6 V, 8-Pin SOIC (S8-8), Commercial; Linear Technology Part Number: LT1816; Manufacturer: Linear Technology; PartNumber: LT1816CS8; Channels (#): 2; GBW (MHz) Typical: 220; Is (mA) Typical: 6.5; SR (V/us) Typical: 1500; Vos (mV) Guaranteed: 1.5; Vos (mV) Typical: 0.2; Vs Max (V): 12.6; Vs Min (V): 2.5; DatasheetVersion: Rev. B; PackageVersion: Rev G; PackageReference: LT-S8-8; PackageDescription: 8-Pin Plastic Small Outline, Body 4.9 x 3.9 mm, Pitch 1.27 mm; Supplier 1: Digi-Key; Supplier Part Number 1: LT1816CS8-ND; Type: VFB; Mounting Technology: Surface Mount; ComponentLink1Description: Manufacturer URL; ComponentLink1URL: http://www.linear.com/; ComponentLink2Description: Datasheet; ComponentLink2URL: http://cds.linear.com/docs/en/datasheet/181567fb.pdf; ComponentLink3Description: Package Specification; ComponentLink3URL: http://cds.linear.com/docs/en/packaging/05081610_G_SO8.pdf
footprint LT-S8-8_N (SOIC, 8-Leads, Body 4.9x3.9mm, Pitch 1.27mm, IPC Medium Density)
footprint LT-S8-8_L (SOIC, 8-Leads, Body 4.9x3.9mm, Pitch 1.27mm, IPC High Density)
footprint LT-S8-8_M (SOIC, 8-Leads, Body 4.9x3.9mm, Pitch 1.27mm, IPC Low Density)
pins on every part: 4 V- (power), 8 V+ (power)
part A pins: 1 OUT A (out), 2 -IN A (in), 3 +IN A (in)
part B pins: 5 +IN B (in), 6 -IN B (in), 7 OUT B (out)

## LT1816CS8#PBF
designator U?
Dual Channel, High SR Volage Feedback Operational Amplifiers with Programmable Supply Current, 220 MHz Typical GBW, 1500 V/us Typical SR, 2.5 to 12.6 V, 8-Pin SOIC (S8-8), Commercial, Pb-Free; Linear Technology Part Number: LT1816; Manufacturer: Linear Technology; PartNumber: LT1816CS8#PBF; Channels (#): 2; GBW (MHz) Typical: 220; Is (mA) Typical: 6.5; SR (V/us) Typical: 1500; Vos (mV) Guaranteed: 1.5; Vos (mV) Typical: 0.2; Vs Max (V): 12.6; Vs Min (V): 2.5; DatasheetVersion: Rev. B; PackageVersion: Rev G; PackageReference: LT-S8-8; PackageDescription: 8-Pin Plastic Small Outline, Body 4.9 x 3.9 mm, Pitch 1.27 mm; Supplier 1: Digi-Key; Supplier Part Number 1: LT1816CS8#PBF-ND; RoHS: Pb-Free; Type: VFB; Mounting Technology: Surface Mount; ComponentLink1Description: Manufacturer URL; ComponentLink1URL: http://www.linear.com/; ComponentLink2Description: Datasheet; ComponentLink2URL: http://cds.linear.com/docs/en/datasheet/181567fb.pdf; ComponentLink3Description: Package Specification; ComponentLink3URL: http://cds.linear.com/docs/en/packaging/05081610_G_SO8.pdf
footprint LT-S8-8_N (SOIC, 8-Leads, Body 4.9x3.9mm, Pitch 1.27mm, IPC Medium Density)
footprint LT-S8-8_L (SOIC, 8-Leads, Body 4.9x3.9mm, Pitch 1.27mm, IPC High Density)
footprint LT-S8-8_M (SOIC, 8-Leads, Body 4.9x3.9mm, Pitch 1.27mm, IPC Low Density)
pins on every part: 4 V- (power), 8 V+ (power)
part A pins: 1 OUT A (out), 2 -IN A (in), 3 +IN A (in)
part B pins: 5 +IN B (in), 6 -IN B (in), 7 OUT B (out)

## LT1816CS8#TR
designator U?
Dual Channel, High SR Volage Feedback Operational Amplifier with Programmable Supply Current, 220 MHz Typical GBW, 1500 V/us Typical SR, 2.5 to 12.6 V, 8-Pin SOIC (S8-8), Commercial, Reel; Linear Technology Part Number: LT1816; Manufacturer: Linear Technology; PartNumber: LT1816CS8#TR; Channels (#): 2; GBW (MHz) Typical: 220; Is (mA) Typical: 6.5; SR (V/us) Typical: 1500; Vos (mV) Guaranteed: 1.5; Vos (mV) Typical: 0.2; Vs Max (V): 12.6; Vs Min (V): 2.5; DatasheetVersion: Rev. B; PackageVersion: Rev G; PackageReference: LT-S8-8; PackageDescription: 8-Pin Plastic Small Outline, Body 4.9 x 3.9 mm, Pitch 1.27 mm; Supplier 1: Digi-Key; Supplier Part Number 1: LT1816CS8TR-ND; Packing: Reel; Type: VFB; Mounting Technology: Surface Mount; ComponentLink1Description: Manufacturer URL; ComponentLink1URL: http://www.linear.com/; ComponentLink2Description: Datasheet; ComponentLink2URL: http://cds.linear.com/docs/en/datasheet/181567fb.pdf; ComponentLink3Description: Package Specification; ComponentLink3URL: http://cds.linear.com/docs/en/packaging/05081610_G_SO8.pdf
footprint LT-S8-8_N (SOIC, 8-Leads, Body 4.9x3.9mm, Pitch 1.27mm, IPC Medium Density)
footprint LT-S8-8_L (SOIC, 8-Leads, Body 4.9x3.9mm, Pitch 1.27mm, IPC High Density)
footprint LT-S8-8_M (SOIC, 8-Leads, Body 4.9x3.9mm, Pitch 1.27mm, IPC Low Density)
pins on every part: 4 V- (power), 8 V+ (power)
part A pins: 1 OUT A (out), 2 -IN A (in), 3 +IN A (in)
part B pins: 5 +IN B (in), 6 -IN B (in), 7 OUT B (out)

## LT1816CS8#TRPBF
designator U?
Dual Channel, High SR Volage Feedback Operational Amplifiers with Programmable Supply Current, 220 MHz Typical GBW, 1500 V/us Typical SR, 2.5 to 12.6 V, 8-Pin SOIC (S8-8), Commercial, Pb-Free, Reel; Linear Technology Part Number: LT1816; Manufacturer: Linear Technology; PartNumber: LT1816CS8#TRPBF; Channels (#): 2; GBW (MHz) Typical: 220; Is (mA) Typical: 6.5; SR (V/us) Typical: 1500; Vos (mV) Guaranteed: 1.5; Vos (mV) Typical: 0.2; Vs Max (V): 12.6; Vs Min (V): 2.5; DatasheetVersion: Rev. B; PackageVersion: Rev G; PackageReference: LT-S8-8; PackageDescription: 8-Pin Plastic Small Outline, Body 4.9 x 3.9 mm, Pitch 1.27 mm; Supplier 1: Digi-Key; Supplier Part Number 1: LT1816CS8#TRPBF-ND; Packing: Reel; RoHS: Pb-Free; Type: VFB; Mounting Technology: Surface Mount; ComponentLink1Description: Manufacturer URL; ComponentLink1URL: http://www.linear.com/; ComponentLink2Description: Datasheet; ComponentLink2URL: http://cds.linear.com/docs/en/datasheet/181567fb.pdf; ComponentLink3Description: Package Specification; ComponentLink3URL: http://cds.linear.com/docs/en/packaging/05081610_G_SO8.pdf
footprint LT-S8-8_N (SOIC, 8-Leads, Body 4.9x3.9mm, Pitch 1.27mm, IPC Medium Density)
footprint LT-S8-8_L (SOIC, 8-Leads, Body 4.9x3.9mm, Pitch 1.27mm, IPC High Density)
footprint LT-S8-8_M (SOIC, 8-Leads, Body 4.9x3.9mm, Pitch 1.27mm, IPC Low Density)
pins on every part: 4 V- (power), 8 V+ (power)
part A pins: 1 OUT A (out), 2 -IN A (in), 3 +IN A (in)
part B pins: 5 +IN B (in), 6 -IN B (in), 7 OUT B (out)